# Altium footprint library DHVQFN-14.PcbLib: 2 footprints
Each footprint in its own frame and in the unit in brackets; x right, y up, seen from the top. Pads: shape width x height; smd on the part's side, far side on the other; paste and mask are expansions set on the pad; w line width, h text height; cw(c..) or ccw(c..) is an arc to the next point about the centre after c.
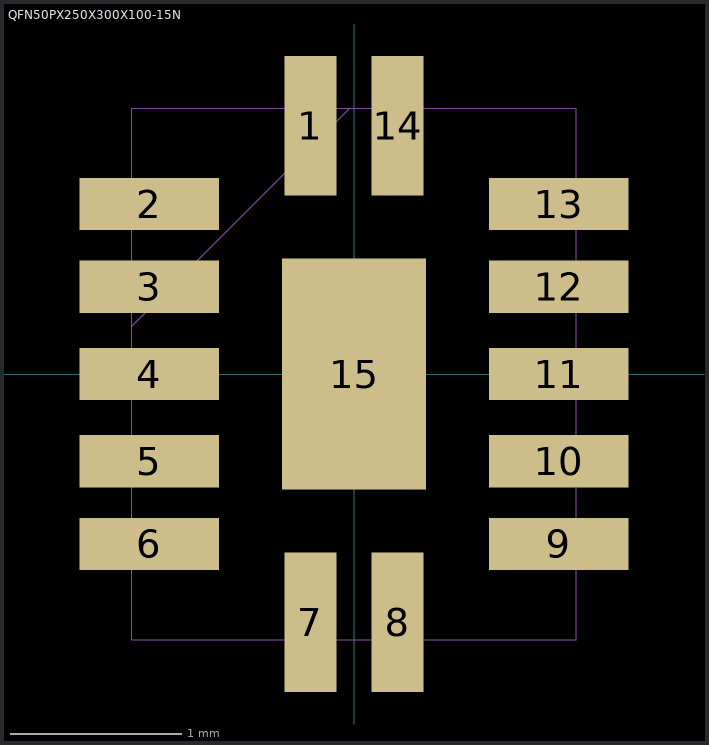
[diagram p0: the footprints below, top view; thin cyan lines are the x and y axes]

## PCBComponent_1 [mil]

## QFN50PX250X300X100-15N [mil]
pads (15):
  rect 12x32 smd: 1(-10,57) 7(-10,-57) 8(10,-57) 14(10,57)
  rect 32x12 smd: 2(-47,39) 3(-47,20) 4(-47,0) 5(-47,-20) 6(-47,-39) 9(47,-39) 10(47,-20) 11(47,0) 12(47,20) 13(47,39)
  rect 33x53 smd: 15(0,0)
Mechanical 4:
  lines w0: -51,-61 -51,61 ; -51,-61 51,-61 ; -51,-61 -51,61 ; -51,-61 51,-61 ; -51,61 51,61 ; -51,61 51,61 ; 51,-61 51,61 ; 51,-61 51,61 ; -51,-45 -51,-33 -51,-45 ; -51,-26 -51,-14 -51,-26 ; -51,-6 -51,6 -51,-6 ; -51,11 -1,61 -51,11 ; -51,14 -51,26 -51,14 ; -51,33 -51,45 -51,33 ; -16,-61 -4,-61 -16,-61 ; -16,61 -4,61 -16,61 ; 4,-61 16,-61 4,-61 ; 4,61 16,61 4,61 ; 51,-45 51,-33 51,-45 ; 51,-26 51,-14 51,-26 ; 51,-6 51,6 51,-6 ; 51,14 51,26 51,14 ; 51,33 51,45 51,33